# Altium footprint library C1210C226K3PACTU.PcbLib: 3 footprints
Each footprint in its own frame and in the unit in brackets; x right, y up, seen from the top. Pads: shape width x height; smd on the part's side, far side on the other; paste and mask are expansions set on the pad; w line width, h text height; cw(c..) or ccw(c..) is an arc to the next point about the centre after c.
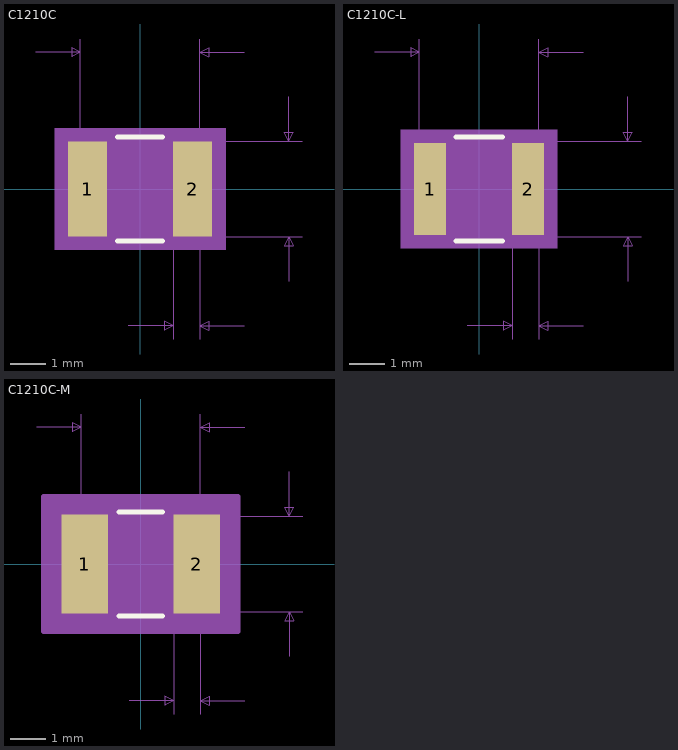
[diagram p0: the footprints below, top view; thin cyan lines are the x and y axes]

## C1210C [mil]
pads (2):
  rect 44x107 smd: 1(-59,0) 2(59,0)
Top Overlay:
  lines w6: -24.89,-58.5 24.89,-58.5 ; -24.89,58.5 24.89,58.5
Mechanical 5:
  region: 96,-68.5 -96,-68.5 -96,68.5 96,68.5
Mechanical 7:
  lines w1: -117,153.5 -67,153.5 ; -67,0 -67,168.5 ; -13,-153.5 37,-153.5 ; 0,-53.5 182,-53.5 ; 0,53.5 182,53.5 ; 37,-168.5 37,0 ; 67,-168.5 67,0 67,168.5 ; 117,-153.5 67,-153.5 ; 117,153.5 67,153.5 ; 167,-103.5 167,-53.5 ; 167,103.5 167,53.5 ; -67,153.5 -77,158.5 -77,148.5 -67,153.5 ; 37,-153.5 27,-148.5 27,-158.5 37,-153.5 ; 67,-153.5 77,-148.5 77,-158.5 67,-153.5 ; 67,153.5 77,158.5 77,148.5 67,153.5 ; 167,-53.5 162,-63.5 172,-63.5 167,-53.5 ; 167,53.5 162,63.5 172,63.5 167,53.5
  text "Default Padstyle: RX44Y107D0T" at -362.5,-323.5 h50
  text "Alternate 1 Padstyle: OX60Y90D30P" at -412.5,-423.5 h50
  text "Alternate 2 Padstyle: OX90Y60D30P" at -412.5,-523.5 h50
  text "0.107in/2.718mm" at 187,-12.5 h25
  text "0.134in/3.404mm" at -93.75,173.5 h25
  text "0.03in/0.762mm" at -35.5,-198.5 h25
Mechanical 13:
  lines w1: -67,-53.5 -67,53.5 ; -67,-53.5 -37,-53.5 -37,53.5 -67,53.5 ; -67,-53.5 67,-53.5 ; -67,-53.5 -67,53.5 ; -67,53.5 67,53.5 ; 67,-53.5 37,-53.5 37,53.5 67,53.5 ; 67,-53.5 67,53.5 ; 67,-53.5 67,53.5
Mechanical 15:
  region: 91,-63.5 -91,-63.5 -91,63.5 91,63.5
  lines w6: -91,-63.5 -91,63.5 91,63.5 91,-63.5 -91,-63.5
3D body: height 10, standoff 0, extent 0,0 10,10

## C1210C-L [mil]
pads (2):
  rect 36x103 smd paste+0 mask+0: 1(-55,0) 2(55,0)
Top Overlay:
  lines w6: -25.93,-58.5 25.93,-58.5 ; -25.93,58.5 25.93,58.5
Mechanical 5:
  region: 88,-66.5 -88,-66.5 -88,66.5 88,66.5
Mechanical 7:
  lines w1: -117,153.5 -67,153.5 ; -67,0 -67,168.5 ; -13,-153.5 37,-153.5 ; 0,-53.5 182,-53.5 ; 0,53.5 182,53.5 ; 37,-168.5 37,0 ; 67,-168.5 67,0 67,168.5 ; 117,-153.5 67,-153.5 ; 117,153.5 67,153.5 ; 167,-103.5 167,-53.5 ; 167,103.5 167,53.5 ; -67,153.5 -77,158.5 -77,148.5 -67,153.5 ; 37,-153.5 27,-148.5 27,-158.5 37,-153.5 ; 67,-153.5 77,-148.5 77,-158.5 67,-153.5 ; 67,153.5 77,158.5 77,148.5 67,153.5 ; 167,-53.5 162,-63.5 172,-63.5 167,-53.5 ; 167,53.5 162,63.5 172,63.5 167,53.5
  text "Default Padstyle: RX36Y103D0T" at -362.5,-321.5 h50
  text "Alternate 1 Padstyle: OX60Y90D30P" at -412.5,-421.5 h50
  text "Alternate 2 Padstyle: OX90Y60D30P" at -412.5,-521.5 h50
  text "0.107in/2.718mm" at 187,-12.5 h25
  text "0.134in/3.404mm" at -93.75,173.5 h25
  text "0.03in/0.762mm" at -35.5,-198.5 h25
Mechanical 13:
  lines w1: -67,-53.5 -67,53.5 ; -67,-53.5 -37,-53.5 -37,53.5 -67,53.5 ; -67,-53.5 67,-53.5 ; -67,-53.5 -67,53.5 ; -67,53.5 67,53.5 ; 67,-53.5 37,-53.5 37,53.5 67,53.5 ; 67,-53.5 67,53.5 ; 67,-53.5 67,53.5
Mechanical 15:
  region: 77,-55.5 -77,-55.5 -77,55.5 77,55.5
  lines w6: -77,-55.5 -77,55.5 77,55.5 77,-55.5 -77,-55.5
3D body: height 10, standoff 0, extent 0,0 10,10

## C1210C-M [mil]
pads (2):
  rect 52x111 smd paste+0 mask+0: 1(-63,0) 2(63,0)
Top Overlay:
  lines w6: -24.25,-58.5 24.25,-58.5 ; -24.25,58.5 24.25,58.5
Mechanical 5:
  region: 104,-70.5 -104,-70.5 -104,70.5 104,70.5
Mechanical 7:
  lines w1: -117,153.5 -67,153.5 ; -67,0 -67,168.5 ; -13,-153.5 37,-153.5 ; 0,-53.5 182,-53.5 ; 0,53.5 182,53.5 ; 37,-168.5 37,0 ; 67,-168.5 67,0 67,168.5 ; 117,-153.5 67,-153.5 ; 117,153.5 67,153.5 ; 167,-103.5 167,-53.5 ; 167,103.5 167,53.5 ; -67,153.5 -77,158.5 -77,148.5 -67,153.5 ; 37,-153.5 27,-148.5 27,-158.5 37,-153.5 ; 67,-153.5 77,-148.5 77,-158.5 67,-153.5 ; 67,153.5 77,158.5 77,148.5 67,153.5 ; 167,-53.5 162,-63.5 172,-63.5 167,-53.5 ; 167,53.5 162,63.5 172,63.5 167,53.5
  text "Default Padstyle: RX52Y111D0T" at -362.5,-325.5 h50
  text "Alternate 1 Padstyle: OX60Y90D30P" at -412.5,-425.5 h50
  text "Alternate 2 Padstyle: OX90Y60D30P" at -412.5,-525.5 h50
  text "0.107in/2.718mm" at 187,-12.5 h25
  text "0.134in/3.404mm" at -93.75,173.5 h25
  text "0.03in/0.762mm" at -35.5,-198.5 h25
Mechanical 13:
  lines w1: -67,-53.5 -67,53.5 ; -67,-53.5 -37,-53.5 -37,53.5 -67,53.5 ; -67,-53.5 67,-53.5 ; -67,-53.5 -67,53.5 ; -67,53.5 67,53.5 ; 67,-53.5 37,-53.5 37,53.5 67,53.5 ; 67,-53.5 67,53.5 ; 67,-53.5 67,53.5
Mechanical 15:
  region: 109,-75.5 -109,-75.5 -109,75.5 109,75.5
  lines w6: -109,-75.5 -109,75.5 109,75.5 109,-75.5 -109,-75.5
3D body: height 10, standoff 0, extent 0,0 10,10